# Altium footprint library PowerPcbLib.PcbLib: 18 footprints (part 1 of 2)
Each footprint in its own frame and in the unit in brackets; x right, y up, seen from the top. Pads: shape width x height; smd on the part's side, far side on the other; paste and mask are expansions set on the pad; w line width, h text height; cw(c..) or ccw(c..) is an arc to the next point about the centre after c.
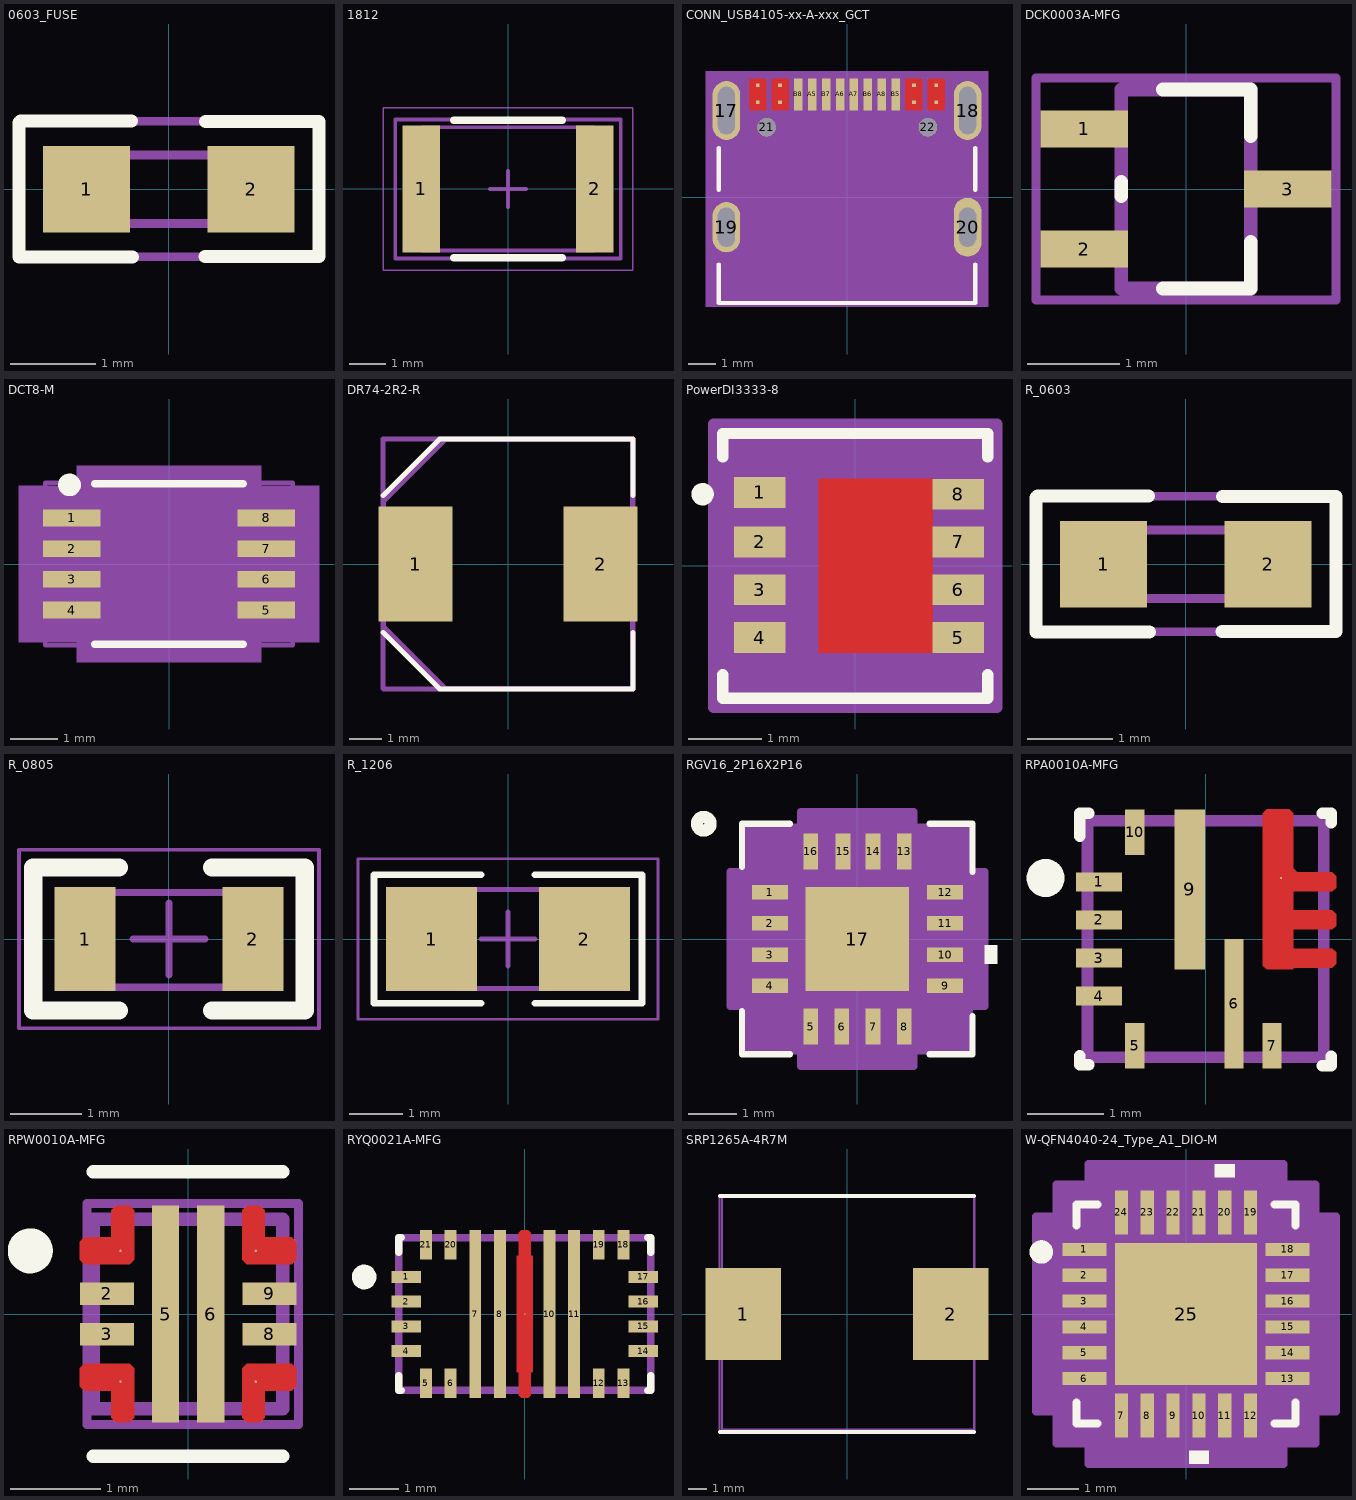
[diagram p0: the footprints below, top view; thin cyan lines are the x and y axes]

## 0603_FUSE [mil]
pads (2):
  rect 40x40 smd: 1(-37.89,0) 2(37.89,0)
Top Overlay:
  lines w6: -68.99,-31.03 -68.99,30.75 ; -68.9,-31.13 -16.76,-31.13 ; -68.36,31.38 -17.13,31.38 ; 16.59,-30.98 69.1,-30.98 69.1,31.22 16.97,31.22
Top Assembly:
  lines w3.94: -68.9,-31.13 69.1,-31.13 69.1,31.38 -68.9,31.38 -68.9,-31.13
  text ".Designator" at -59.06,-8.02 h39.37
Top Component Outline:
  lines w4: -31.49,-15.74 31.5,-15.74 31.5,15.75 -31.49,15.75 -31.49,-15.74
3D body "User Library-ptc06032-1(1).step": height 29.72, standoff 0, extent -31.49,-14.76 31.5,14.77

## 1812 [mm] "1812"
height 0.7
pads (2):
  rect 1.05x3.5 smd: 1(-2.4,0) 2(2.4,0)
Top Overlay:
  lines w0.2: -1.5,-1.9 1.5,-1.9 ; -1.5,1.9 1.5,1.9
Top Assembly:
  lines w0.1: -3.123,-1.923 3.123,-1.923 3.123,1.923 -3.123,1.923 -3.123,-1.923
  text ".Designator" at -1.9,-0.212 h1
Top Component Outline:
  lines w0.1: -2.365,-1.7 -2.365,1.705 2.365,1.705 2.365,-1.7 -2.365,-1.7
Mechanical 15:
  lines w0.05: -3.45,-2.25 3.45,-2.25 3.45,2.25 -3.45,2.25 -3.45,-2.25
  lines w0.1: -0.5,0 0.5,0 ; 0,-0.5 0,0.5
3D body "RESC4632X07M.step": height 0.7, standoff 0, extent -2.365,-1.705 2.365,1.705

## CONN_USB4105-xx-A-xxx_GCT [mil]
pads (22):
  oval 39x83 hole 67 slot 24 at 0 deg paste-99999: 17(-170.08,122.06) 18(170.08,122.06)
  oval 39x71 hole 55 slot 24 at 0 deg paste-99999: 19(-170.08,-42.51)
  oval 39x83 hole 55 slot 24 at 0 deg paste-99999: 20(170.08,-42.51)
  round 26 hole 26 unplated paste-99999 mask+0: 21(-113.39,98.43) 22(114.17,98.43)
  rect 5x5 smd paste-2.5 mask-2.5: A1(-125.98,157.48) A4(-94.49,157.48) A9(94.49,133.86) A12(125.98,133.86) B1(125.98,157.48) B4(94.49,157.48) B9(-94.49,133.86) B12(-125.98,133.86)
  rect 12x45 smd paste-22.5: A5(-49.21,144.7) A6(-9.84,144.7) A7(9.84,144.7) A8(49.21,144.7) B5(68.9,144.7) B6(29.53,144.7) B7(-29.53,144.7) B8(-68.9,144.7)
Top Layer:
  region: 137.98,122.2 137.98,167.2 113.98,167.2 113.98,122.2
  region: 106.49,122.2 106.49,167.2 82.49,167.2 82.49,122.2
  region: -82.49,122.2 -82.49,167.2 -106.49,167.2 -106.49,122.2
  region: -113.98,122.2 -113.98,167.2 -137.98,167.2 -137.98,122.2
Top Overlay:
  lines w6: -181,-95.22 -181,-149.5 181,-149.5 181,-95.22 ; -181,10.21 -181,69.34 ; 181,10.21 181,69.34
Top Paste:
  region: 137.98,122.2 137.98,167.2 113.98,167.2 113.98,122.2
  region: 106.49,122.2 106.49,167.2 82.49,167.2 82.49,122.2
  region: -82.49,122.2 -82.49,167.2 -106.49,167.2 -106.49,122.2
  region: -113.98,122.2 -113.98,167.2 -137.98,167.2 -137.98,122.2
Top Solder:
  region: 106.49,122.2 106.49,167.2 82.49,167.2 82.49,122.2
  region: -82.49,122.2 -82.49,167.2 -106.49,167.2 -106.49,122.2
  region: -113.98,122.2 -113.98,167.2 -137.98,167.2 -137.98,122.2
  region: 137.98,122.2 137.98,167.2 113.98,167.2 113.98,122.2
Top Assembly:
  lines w3.94: -189.88,-150.51 189.88,-150.51 189.88,174.13 -189.88,174.13 -189.88,-150.51
  text ".Designator" at -98.43,3.94 h50
Top Component Outline:
  lines w1: -176,-144.5 -176,144.5 176,144.5 176,-144.5 -176,-144.5
  lines w3.94: -174.63,-151.01 174.13,-151.01 174.13,150.51 -174.63,150.51 -174.63,-151.01
Mechanical 15:
  region: 199.58,177.2 -199.58,177.2 -199.58,-154.5 199.58,-154.5
3D body "USB4105-GF-A.stp": height 128.35, standoff -37.4, extent -176.97,-151.57 175,151.57

## DCK0003A-MFG [mm]
pads (3):
  rect 0.95x0.4 smd paste+0: 1(-1.1,0.65) 2(-1.1,-0.65) 3(1.1,0)
Top Overlay:
  lines w0.15: -0.7,-0.075 -0.7,0.075 ; -0.25,-1.075 0.7,-1.075 0.7,-0.575 ; -0.25,1.075 0.7,1.075 0.7,0.575
Top Assembly:
  lines w0.1: -1.623,-1.2 1.623,-1.2 1.623,1.2 -1.623,1.2 -1.623,-1.2
  text ".Designator" at -1.5,-0.414 h1.52
Top Component Outline:
  lines w0.15: -0.7,-1.075 0.7,-1.075 0.7,1.075 -0.7,1.075 -0.7,-1.075

## DCT8-M [mm]
pads (8):
  rect 1.223x0.355 smd paste+0: 1(-2.059,0.975) 2(-2.059,0.325) 3(-2.059,-0.325) 4(-2.059,-0.975) 5(2.059,-0.975) 6(2.059,-0.325) 7(2.059,0.325) 8(2.059,0.975)
Top Overlay:
  circle w0.254: c-2.108,1.676 r0.114
  lines w0.152: -1.575,-1.702 1.575,-1.702 ; -1.575,1.702 1.575,1.702
Top Assembly:
  lines w0.1: -2.623,-1.723 2.623,-1.723 2.623,1.723 -2.623,1.723 -2.623,-1.723
  text ".Designator" at -2,-0.3 h1.27
  text "*" at -0.4,-0.6 h1.27
Top Component Outline:
  lines w0.025: -0.305,1.575 ccw(c0,1.575) 0.305,1.575 ; -2.121,-1.127 -2.121,-0.823 -1.448,-0.823 -1.448,-1.127 -2.121,-1.127 ; -2.121,-0.477 -2.121,-0.173 -1.448,-0.173 -1.448,-0.477 -2.121,-0.477 ; -2.121,0.173 -2.121,0.477 -1.448,0.477 -1.448,0.173 -2.121,0.173 ; -2.121,0.823 -2.121,1.127 -1.448,1.127 -1.448,0.823 -2.121,0.823 ; -1.448,-1.575 -1.448,1.575 1.448,1.575 1.448,-1.575 -1.448,-1.575 ; 1.448,-1.127 2.121,-1.127 2.121,-0.823 1.448,-0.823 1.448,-1.127 ; 1.448,-0.477 2.121,-0.477 2.121,-0.173 1.448,-0.173 1.448,-0.477 ; 1.448,0.173 2.121,0.173 2.121,0.477 1.448,0.477 1.448,0.173 ; 1.448,0.823 2.121,0.823 2.121,1.127 1.448,1.127 1.448,0.823
Mechanical 15:
  region: -1.956,-1.66 -3.179,-1.66 -3.179,1.66 -1.956,1.66 -1.956,2.083 1.956,2.083 1.956,1.66 3.179,1.66 3.179,-1.66 1.956,-1.66 1.956,-2.083 -1.956,-2.083
3D body "DCT8.step": height 1.3, standoff 0, extent -2.121,-1.575 2.121,1.575

## DR74-2R2-R [mil]
pads (2):
  rect 89x138 smd: 1(-111,0) 2(111,0)
Top Overlay:
  lines w6: -150,-82 -82,-150 150,-150 150,-82 ; -150,82 -82,150 150,150 150,82
Top Assembly:
  lines w5.91: -149.61,-78.74 -78.74,-149.61 149.61,-149.61 149.61,149.61 -70.87,149.61 -78.74,149.61 -149.61,78.74 -149.61,-78.74
  text ".Designator" at -125.98,-12.36 h60
Top Component Outline:
  lines w6: -150,-75 -75,-150 ; -150,75 -75,150 ; -150,-149.21 -149.21,-150 150,-150 150,150 -150,150 -150,-149.21
3D body "step_temp.STEP": height 171.26, standoff 0, extent -149.61,-149.61 149.61,149.61

## PowerDI3333-8 [mm]
pads (8):
  rect 0.7x0.42 smd paste+0: 1(-1.3,1) 2(-1.3,0.325) 3(-1.3,-0.325) 4(-1.3,-0.975) 5(1.402,-0.975) 6(1.402,-0.325) 7(1.402,0.325) 8(1.402,0.975)
Top Layer:
  region: -0.495,-1.185 -0.495,1.185 1.054,1.185 1.054,-1.185
Top Overlay:
  circle w0.152: c-2.077,0.975 r0.076
  lines w0.152: -1.802,-1.481 -1.802,-1.802 1.802,-1.802 1.802,-1.481 ; -1.802,1.481 -1.802,1.802 1.802,1.802 1.802,1.481
Top Paste:
  region: -0.5,-1.185 -0.5,1.185 1.049,1.185 1.049,-1.185
Top Solder:
  region: -0.599,-1.185 -0.599,1.185 0.95,1.185 0.95,-1.185
Top Assembly:
  lines w0.1: -1.823,-1.823 1.823,-1.823 1.823,1.823 -1.823,1.823 -1.823,-1.823
  text ".Designator" at -1.5,-0.3 h1.27
Top Component Outline:
  lines w0.025: -0.305,1.675 ccw(c0,1.675) 0.305,1.675 ; -1.675,-1.675 1.675,-1.675 1.675,1.675 -1.675,1.675 -1.675,-1.675
Mechanical 15:
  region: -1.929,-1.439 -1.929,1.439 -1.929,1.929 1.929,1.929 1.929,1.439 1.929,-1.439 1.929,-1.929 -1.929,-1.929
  lines w0.152: -1.929,-1.929 -1.929,-1.439 -1.929,1.439 -1.929,1.929 1.929,1.929 1.929,1.439 1.929,-1.439 1.929,-1.929 -1.929,-1.929
3D body "DMP2008UFG-7.stp": height 0.85, standoff 0, extent -1.65,-1.649 1.65,1.651

## R_0603 [mil]
pads (2):
  rect 40x40 smd: 1(-37.89,0) 2(37.89,0)
Top Overlay:
  lines w6: -68.99,-31.03 -68.99,30.75 ; -68.9,-31.13 -16.76,-31.13 ; -68.36,31.38 -17.13,31.38 ; 16.59,-30.98 69.1,-30.98 69.1,31.22 16.97,31.22
Top Assembly:
  lines w3.94: -68.9,-31.13 -68.9,31.38 69.1,31.38 69.1,-31.13 -68.9,-31.13
  text ".Designator" at -47.24,-11.81 h39.37
Top Component Outline:
  lines w4: -31.49,-15.74 -31.49,15.75 31.5,15.75 31.5,-15.74 -31.49,-15.74
3D body "User Library-RES_1609-0603.step": height 22.05, standoff 0, extent -33.46,-16.73 33.47,14.77

## R_0805 [mm] "Chip Resistor, 2-Leads, Body 2,00x1,25mm, IPC Low Density"
height 0.8
pads (2):
  rect 0.85x1.45 smd: 1(-1.175,0) 2(1.175,0)
Top Overlay:
  lines w0.254: -0.7,-1 -1.9,-1 -1.9,1 -0.7,1 ; 0.6,-1 0.8,-1 1.9,-1 1.9,1 0.6,1
Top Assembly:
  lines w0.1: -1.05,-0.675 1.05,-0.675 1.05,0.65 -1.05,0.65 -1.05,-0.675
  text ".Designator" at -0.8,-0.414 h1.52
Mechanical 15:
  lines w0.05: -2.1,-1.25 -2.1,1.25 2.1,1.25 2.1,-1.25 -2.1,-1.25
  lines w0.1: -0.5,0 0.5,0 ; 0,-0.5 0,0.5
3D body: height 0.8, standoff 0, extent -0.65,-0.675 0.65,0.675
3D body: height 0.8, standoff 0, extent -1.05,-0.675 -0.65,0.675
3D body: height 0.8, standoff 0, extent 0.65,-0.675 1.05,0.675

## R_1206 [mm] "Chip Resistor, 2-Leads, Body 3,20x1,60mm, IPC Low Density"
height 0.65
pads (2):
  rect 1.7x1.95 smd: 1(-1.425,0) 2(1.425,0)
Top Overlay:
  lines w0.127: -0.5,-1.2 -2.5,-1.2 -2.5,1.2 -0.5,1.2 ; 0.5,-1.2 2.5,-1.2 2.5,1.2 0.5,1.2
Top Assembly:
  lines w0.1: -1.725,-0.925 -1.725,0.925 1.725,0.925 1.725,-0.925 -1.725,-0.925
  text ".Designator" at -1.3,-0.314 h1.52
Mechanical 15:
  lines w0.05: -2.8,-1.5 -2.8,1.5 2.8,1.5 2.8,-1.5 -2.8,-1.5
  lines w0.1: -0.5,0 0.5,0 ; 0,-0.5 0,0.5
3D body: height 0.65, standoff 0, extent -1.125,-0.925 1.125,0.925
3D body: height 0.65, standoff 0, extent -1.725,-0.925 -1.125,0.925
3D body: height 0.65, standoff 0, extent 1.125,-0.925 1.725,0.925

## RGV16_2P16X2P16 [mm]
pads (17):
  rect 0.75x0.305 smd paste+0: 1(-1.825,0.975) 2(-1.825,0.325) 3(-1.825,-0.325) 4(-1.825,-0.975) 9(1.825,-0.975) 10(1.825,-0.325) 11(1.825,0.325) 12(1.825,0.975)
  rect 0.305x0.75 smd paste+0: 5(-0.975,-1.825) 6(-0.325,-1.825) 7(0.325,-1.825) 8(0.975,-1.825) 13(0.975,1.825) 14(0.325,1.825) 15(-0.3,1.825) 16(-0.975,1.825)
  rect 2.16x2.16 smd paste-1.08: 17(0,0)
Top Overlay:
  circle w0.254: c-3.2,2.4 r0.141
  region: 2.654,-0.135 2.908,-0.135 2.908,-0.516 2.654,-0.516
  lines w0.127: -2.4,-1.5 -2.4,-2.4 -1.4,-2.4 ; -1.4,2.4 -2.4,2.4 ; 1.5,-2.4 2.4,-2.4 2.4,-1.6 ; 1.5,2.4 2.4,2.4 2.4,1.6 2.4,1.4 ; -2.4,2.4 -2.4,1.5 -2.4,2.4
Top Paste:
  region: 1.005,-0.494 0.635,-0.494 0.494,-0.635 0.494,-1.005 1.005,-1.005
  region: 1.005,0.294 0.635,0.294 0.494,0.152 0.494,-0.152 0.635,-0.294 1.005,-0.294
  region: 1.005,1.005 0.494,1.005 0.494,0.635 0.635,0.494 1.005,0.494
  region: 0.152,-0.494 -0.152,-0.494 -0.294,-0.635 -0.294,-1.005 0.294,-1.005 0.294,-0.635
  region: 0.152,0.294 -0.152,0.294 -0.294,0.152 -0.294,-0.152 -0.152,-0.294 0.152,-0.294 0.294,-0.152 0.294,0.152
  region: 0.294,1.005 -0.294,1.005 -0.294,0.635 -0.152,0.494 0.152,0.494 0.294,0.635
  region: -0.635,-0.494 -1.005,-0.494 -1.005,-1.005 -0.494,-1.005 -0.494,-0.635
  region: -0.635,0.294 -1.005,0.294 -1.005,-0.294 -0.635,-0.294 -0.494,-0.152 -0.494,0.152
  region: -0.494,1.005 -1.005,1.005 -1.005,0.494 -0.635,0.494 -0.494,0.635
Top Solder:
  region: 0.594,-1.144 0.594,1.144 1.144,1.144 1.144,-1.144
  region: 0.194,-1.144 0.194,1.144 -0.194,1.144 -0.194,-1.144
  region: -0.8,-1.1 -0.8,1.187 -0.25,1.187 -0.25,-1.1
  region: -1.144,-1.144 -1.144,-0.594 1.144,-0.594 1.144,-1.144
  region: -1.144,-0.194 -1.144,0.194 1.144,0.194 1.144,-0.194
  region: -1.144,0.594 -1.144,1.144 1.144,1.144 1.144,0.594
Top Assembly:
  lines w0.1: -2.123,-2.223 2.223,-2.223 2.223,2.223 -2.123,2.223 -2.123,-2.223
  text ".Designator" at -1.1,-0.3 h1.27
Top Component Outline:
  lines w0.025: -2.075,0.805 -0.805,2.075 ; -2.075,-2.075 -2.075,2.075 2.075,2.075 2.075,-2.075 -2.075,-2.075
  text "*" at -1.463,0.665 h1.27
Mechanical 15:
  region: -1.179,-2.329 -2.329,-2.329 -2.329,-1.404 -2.654,-1.404 -2.654,1.404 -2.329,1.404 -2.329,2.329 -1.179,2.329 -1.179,2.654 1.179,2.654 1.179,2.329 2.329,2.329 2.329,1.404 2.654,1.404 2.654,-1.404 2.329,-1.404 2.329,-2.329 1.179,-2.329 1.179,-2.654 -1.179,-2.654
  lines w0.152: -2.654,-1.404 -2.654,1.404 -2.329,1.404 -2.329,2.329 -1.179,2.329 -1.179,2.654 1.179,2.654 1.179,2.329 2.329,2.329 2.329,1.404 2.654,1.404 2.654,-1.404 2.329,-1.404 2.329,-2.329 1.179,-2.329 1.179,-2.654 -1.179,-2.654 -1.179,-2.329 -2.329,-2.329 -2.329,-1.404 -2.654,-1.404
3D body "RGV16_2P16X2P16.step": height 1, standoff 0, extent -2.126,-2.126 2.126,2.126

## RPA0010A-MFG [mm]
pads (10):
  rect 0.6x0.25 smd paste+0: 1(-1.4,0.75) 2(-1.4,0.25) 3(-1.4,-0.25) 4(-1.4,-0.75)
  rect 0.25x0.6 smd paste+0: 5(-0.93,-1.4) 7(0.87,-1.4) 10(-0.93,1.4)
  rect 0.25x1.7 smd paste-0.837: 6(0.37,-0.85)
  round 0.025 smd paste+0 mask+0: 8(0.99,0.8)
  rect 0.4x2.1 smd paste-1.037: 9(-0.21,0.65)
Top Layer:
  region: 1.1,1.7 0.8,1.7 0.75,1.65 0.75,-0.35 0.8,-0.4 1.15,-0.4 1.15,-0.375 1.66,-0.375 1.71,-0.325 1.71,-0.175 1.66,-0.125 1.15,-0.125 1.15,0.125 1.66,0.125 1.71,0.175 1.71,0.325 1.66,0.375 1.15,0.375 1.15,0.625 1.66,0.625 1.71,0.675 1.71,0.825 1.66,0.875 1.2,0.875 1.15,0.925 1.15,1.65
Top Overlay:
  circle w0.25: c-2.1,0.8 r0.125
  lines w0.15: -1.65,-1.53 -1.65,-1.65 -1.53,-1.65 ; -1.65,1.35 -1.65,1.65 -1.53,1.65 ; 1.53,-1.66 1.65,-1.66 1.65,-1.54 ; 1.53,1.65 1.65,1.65 ; 1.65,1.525 1.65,1.645
Top Paste:
  region: 0.75,1.65 0.8,1.7 1.1,1.7 1.15,1.65 1.15,0.925 1.2,0.875 1.66,0.875 1.71,0.825 1.71,0.675 1.66,0.625 1.15,0.625 1.15,0.375 1.66,0.375 1.71,0.325 1.71,0.175 1.66,0.125 1.15,0.125 1.15,-0.125 1.66,-0.125 1.71,-0.175 1.71,-0.325 1.66,-0.375 1.15,-0.375 1.15,-0.4 0.8,-0.4 0.75,-0.35
  region: 0.295,-0.005 0.445,-0.005 0.495,-0.055 0.495,-0.705 0.445,-0.755 0.295,-0.755 0.245,-0.705 0.245,-0.055
  region: 0.295,-1.705 0.245,-1.655 0.245,-1.005 0.295,-0.955 0.445,-0.955 0.495,-1.005 0.495,-1.655 0.445,-1.705
  region: -0.36,-0.395 -0.41,-0.345 -0.41,0.505 -0.36,0.555 -0.06,0.555 -0.01,0.505 -0.01,-0.345 -0.06,-0.395
  region: -0.41,1.655 -0.36,1.705 -0.06,1.705 -0.01,1.655 -0.01,0.805 -0.06,0.755 -0.36,0.755 -0.41,0.805
Top Solder:
  region: 0.75,1.65 0.8,1.7 1.1,1.7 1.15,1.65 1.15,0.925 1.2,0.875 1.66,0.875 1.71,0.825 1.71,0.675 1.66,0.625 1.15,0.625 1.15,0.375 1.66,0.375 1.71,0.325 1.71,0.175 1.66,0.125 1.15,0.125 1.15,-0.125 1.66,-0.125 1.71,-0.175 1.71,-0.325 1.66,-0.375 1.15,-0.375 1.15,-0.4 0.8,-0.4 0.75,-0.35
Top Assembly:
  lines w0.1: -1.523,-1.523 1.523,-1.523 1.523,1.523 -1.523,1.523 -1.523,-1.523
  text ".Designator" at -1.1,-0.3 h1.27
Top Component Outline:
  lines w0.15: -1.55,-1.55 1.55,-1.55 1.55,1.55 -1.55,1.55 -1.55,-1.55
3D body "TPS56837RPAR.stp": height 1, standoff 0, extent -1.449,-1.527 1.551,1.473

## RPW0010A-MFG [mm]
pads (10):
  round 0.025 smd paste-0.122 mask+0: 1(-0.75,0.7) 10(0.75,0.7)
  rect 0.6x0.25 smd paste+0: 2(-0.9,0.225) 3(-0.9,-0.225) 8(0.9,-0.225) 9(0.9,0.225)
  round 0.025 smd paste-0.115 mask+0: 4(-0.75,-0.75) 7(0.75,-0.75)
  rect 0.3x2.4 smd paste-1.187: 5(-0.25,0) 6(0.25,0)
Top Layer:
  region: -1.15,0.85 -0.85,0.85 -0.85,1.15 -0.8,1.2 -0.65,1.2 -0.6,1.15 -0.6,0.6 -0.65,0.55 -1.15,0.55 -1.2,0.6 -1.2,0.8
  region: -1.15,-0.85 -0.85,-0.85 -0.85,-1.15 -0.8,-1.2 -0.65,-1.2 -0.6,-1.15 -0.6,-0.6 -0.65,-0.55 -1.15,-0.55 -1.2,-0.6 -1.2,-0.8
  region: 1.15,-0.85 0.85,-0.85 0.85,-1.15 0.8,-1.2 0.65,-1.2 0.6,-1.15 0.6,-0.6 0.65,-0.55 1.15,-0.55 1.2,-0.6 1.2,-0.8
  region: 1.15,0.85 0.85,0.85 0.85,1.15 0.8,1.2 0.65,1.2 0.6,1.15 0.6,0.6 0.65,0.55 1.15,0.55 1.2,0.6 1.2,0.8
Top Overlay:
  circle w0.25: c-1.75,0.7 r0.125
  lines w0.15: -1.05,-1.575 1.05,-1.575 ; -1.05,1.575 1.05,1.575
Top Paste:
  region: 0.39,-0.15 0.39,-1.11 0.34,-1.16 0.16,-1.16 0.11,-1.11 0.11,-0.15 0.16,-0.1 0.34,-0.1
  region: -0.16,-1.16 -0.34,-1.16 -0.39,-1.11 -0.39,-0.15 -0.34,-0.1 -0.16,-0.1 -0.11,-0.15 -0.11,-1.11
  region: 0.39,1.11 0.39,0.15 0.34,0.1 0.16,0.1 0.11,0.15 0.11,1.11 0.16,1.16 0.34,1.16
  region: -0.16,1.16 -0.11,1.11 -0.11,0.15 -0.16,0.1 -0.34,0.1 -0.39,0.15 -0.39,1.11 -0.34,1.16
  region: -1.15,-0.825 -0.825,-0.825 -0.825,-1.15 -0.775,-1.2 -0.65,-1.2 -0.6,-1.15 -0.6,-0.6 -0.65,-0.55 -1.15,-0.55 -1.2,-0.6 -1.2,-0.775
  region: -1.15,0.825 -0.825,0.825 -0.825,1.15 -0.775,1.2 -0.65,1.2 -0.6,1.15 -0.6,0.6 -0.65,0.55 -1.15,0.55 -1.2,0.6 -1.2,0.775
  region: 1.15,0.825 0.825,0.825 0.825,1.15 0.775,1.2 0.65,1.2 0.6,1.15 0.6,0.6 0.65,0.55 1.15,0.55 1.2,0.6 1.2,0.775
  region: 1.15,-0.825 0.825,-0.825 0.825,-1.15 0.775,-1.2 0.65,-1.2 0.6,-1.15 0.6,-0.6 0.65,-0.55 1.15,-0.55 1.2,-0.6 1.2,-0.775
Top Solder:
  region: 0.85,1.15 0.85,0.85 1.15,0.85 1.2,0.8 1.2,0.6 1.15,0.55 0.65,0.55 0.6,0.6 0.6,1.15 0.65,1.2 0.8,1.2
  region: 1.15,-0.85 0.85,-0.85 0.85,-1.15 0.8,-1.2 0.65,-1.2 0.6,-1.15 0.6,-0.6 0.65,-0.55 1.15,-0.55 1.2,-0.6 1.2,-0.8
  region: -0.85,-1.15 -0.85,-0.85 -1.15,-0.85 -1.2,-0.8 -1.2,-0.6 -1.15,-0.55 -0.65,-0.55 -0.6,-0.6 -0.6,-1.15 -0.65,-1.2 -0.8,-1.2
  region: -1.15,0.85 -0.85,0.85 -0.85,1.15 -0.8,1.2 -0.65,1.2 -0.6,1.15 -0.6,0.6 -0.65,0.55 -1.15,0.55 -1.2,0.6 -1.2,0.8
Top Assembly:
  lines w0.1: -1.123,-1.223 1.223,-1.223 1.223,1.223 -1.123,1.223 -1.123,-1.223
  text ".Designator" at -0.9,-0.314 h1.52
Top Component Outline:
  lines w0.15: -1.05,-1.05 -1.05,1.05 1.05,1.05 1.05,-1.05 -1.05,-1.05
3D body "RPW0010A.stp": height 1, standoff 0, extent -0.991,-1.009 1.009,0.991

## RYQ0021A-MFG [mm]
pads (21):
  rect 0.6x0.24 smd paste+0: 1(-2.4,0.75) 2(-2.4,0.25) 3(-2.4,-0.25) 4(-2.4,-0.75) 14(2.4,-0.75) 15(2.4,-0.25) 16(2.4,0.25) 17(2.4,0.75)
  rect 0.24x0.6 smd paste+0: 5(-2,-1.4) 6(-1.5,-1.4) 12(1.5,-1.4) 13(2,-1.4) 18(2,1.4) 19(1.5,1.4) 20(-1.5,1.4) 21(-2,1.4)
  rect 0.24x3.4 smd paste-1.687: 7(-1,0) 8(-0.5,0) 10(0.5,0) 11(1,0)
  round 0.025 smd paste-0.136 mask+0: 9(0,0)
Top Layer:
  region: -0.12,-1.175 -0.165,-1.175 -0.165,1.175 -0.12,1.175 -0.12,1.65 -0.07,1.7 0.07,1.7 0.12,1.65 0.12,1.175 0.165,1.175 0.165,-1.175 0.12,-1.175 0.12,-1.65 0.07,-1.7 -0.07,-1.7 -0.12,-1.65
Top Overlay:
  circle w0.25: c-3.25,0.75 r0.125
  lines w0.15: -2.55,-1.245 -2.55,-1.55 -2.495,-1.55 ; -2.55,1.245 -2.55,1.55 -2.495,1.55 ; 2.495,-1.55 2.55,-1.55 2.55,-1.245 ; 2.495,1.55 2.55,1.55 2.55,1.245
Top Paste:
  region: 0.88,-0.45 0.88,0.45 0.93,0.5 1.07,0.5 1.12,0.45 1.12,-0.45 1.07,-0.5 0.93,-0.5
  region: 0.43,0.5 0.57,0.5 0.62,0.45 0.62,-0.45 0.57,-0.5 0.43,-0.5 0.38,-0.45 0.38,0.45
  region: 0.115,0.5 0.165,0.45 0.165,-0.45 0.115,-0.5 -0.115,-0.5 -0.165,-0.45 -0.165,0.45 -0.115,0.5
  region: -0.57,0.5 -0.43,0.5 -0.38,0.45 -0.38,-0.45 -0.43,-0.5 -0.57,-0.5 -0.62,-0.45 -0.62,0.45
  region: -1.12,0.45 -1.07,0.5 -0.93,0.5 -0.88,0.45 -0.88,-0.45 -0.93,-0.5 -1.07,-0.5 -1.12,-0.45
  region: 1.12,-1.65 1.07,-1.7 0.93,-1.7 0.88,-1.65 0.88,-0.75 0.93,-0.7 1.07,-0.7 1.12,-0.75
  region: 0.57,-1.7 0.43,-1.7 0.38,-1.65 0.38,-0.75 0.43,-0.7 0.57,-0.7 0.62,-0.75 0.62,-1.65
  region: -0.07,-0.7 0.07,-0.7 0.12,-0.75 0.12,-1.65 0.07,-1.7 -0.07,-1.7 -0.12,-1.65 -0.12,-0.75
  region: -0.62,-1.65 -0.62,-0.75 -0.57,-0.7 -0.43,-0.7 -0.38,-0.75 -0.38,-1.65 -0.43,-1.7 -0.57,-1.7
  region: -0.93,-0.7 -0.88,-0.75 -0.88,-1.65 -0.93,-1.7 -1.07,-1.7 -1.12,-1.65 -1.12,-0.75 -1.07,-0.7
  region: 0.88,1.65 0.93,1.7 1.07,1.7 1.12,1.65 1.12,0.75 1.07,0.7 0.93,0.7 0.88,0.75
  region: 0.43,1.7 0.57,1.7 0.62,1.65 0.62,0.75 0.57,0.7 0.43,0.7 0.38,0.75 0.38,1.65
  region: -0.12,1.65 -0.07,1.7 0.07,1.7 0.12,1.65 0.12,0.75 0.07,0.7 -0.07,0.7 -0.12,0.75
  region: -0.57,0.7 -0.62,0.75 -0.62,1.65 -0.57,1.7 -0.43,1.7 -0.38,1.65 -0.38,0.75 -0.43,0.7
  region: -0.88,1.65 -0.88,0.75 -0.93,0.7 -1.07,0.7 -1.12,0.75 -1.12,1.65 -1.07,1.7 -0.93,1.7
Top Solder:
  region: -0.12,-1.175 -0.165,-1.175 -0.165,1.175 -0.12,1.175 -0.12,1.65 -0.07,1.7 0.07,1.7 0.12,1.65 0.12,1.175 0.165,1.175 0.165,-1.175 0.12,-1.175 0.12,-1.65 0.07,-1.7 -0.07,-1.7 -0.12,-1.65
Top Assembly:
  lines w0.1: -2.523,-1.523 2.523,-1.523 2.523,1.523 -2.523,1.523 -2.523,-1.523
  text ".Designator" at -2.1,-0.3 h1.27
Top Component Outline:
  lines w0.15: -2.55,-1.55 -2.55,1.55 2.55,1.55 2.55,-1.55 -2.55,-1.55
3D body "TPS552892RYQR.stp": height 1, standoff 0, extent -2.5,-1.525 2.5,1.475

## SRP1265A-4R7M [mm]
pads (2):
  rect 4x4.9 smd: 1(-5.5,0) 2(5.5,0)
Top Overlay:
  lines w0.2: -6.75,-6.25 6.75,-6.25 ; -6.75,6.25 6.75,6.25
Top Assembly:
  lines w0.1: -6.623,-6.123 6.723,-6.123 6.723,6.223 -6.623,6.223 -6.623,-6.123
  text ".Designator" at -3.4,-0.214 h1.52
Mechanical 15:
  lines w0.1: -6.75,-6.25 -6.75,6.25 6.75,6.25 6.75,-6.25 -6.75,-6.25
3D body "SRP1265A-4R7M.stp": height 6.4, standoff 0, extent -6.75,-6.1 6.75,6.4

## W-QFN4040-24_Type_A1_DIO-M [mm]
pads (25):
  rect 0.857x0.255 smd paste+0: 1(-1.965,1.25) 2(-1.965,0.75) 3(-1.965,0.25) 4(-1.965,-0.25) 5(-1.965,-0.75) 6(-1.965,-1.25) 13(1.965,-1.25) 14(1.965,-0.75) 15(1.965,-0.25) 16(1.965,0.25) 17(1.965,0.75) 18(1.965,1.25)
  rect 0.255x0.857 smd paste+0: 7(-1.25,-1.965) 8(-0.75,-1.965) 9(-0.25,-1.965) 10(0.25,-1.965) 11(0.75,-1.965) 12(1.25,-1.965) 19(1.25,1.965) 20(0.75,1.965) 21(0.25,1.965) 22(-0.25,1.965) 23(-0.75,1.965) 24(-1.25,1.965)
  rect 2.743x2.743 smd paste+0: 25(0,0)
Top Overlay:
  circle w0.254: c-2.8,1.2 r0.1
  region: 0.941,2.648 0.56,2.648 0.56,2.902 0.941,2.902
  region: 0.44,-2.648 0.059,-2.648 0.059,-2.902 0.44,-2.902
  lines w0.152: -2.121,-1.71 -2.121,-2.121 -1.71,-2.121 ; -2.121,1.71 -2.121,2.121 -1.71,2.121 ; 1.71,-2.121 2.121,-2.121 2.121,-1.71 ; 1.71,2.121 2.121,2.121 2.121,1.71
Top Assembly:
  lines w0.1: -2.023,-2.023 2.023,-2.023 2.023,2.023 -2.023,2.023 -2.023,-2.023
  text ".Designator" at -0.7,-0.4 h1.27
Top Component Outline:
  lines w0.025: -1.994,0.724 -0.724,1.994 ; -1.994,-1.994 -1.994,1.994 1.994,1.994 1.994,-1.994 -1.994,-1.994 ; -1.994,-1.402 -1.994,-1.098 -1.994,-1.402 ; -1.994,-0.902 -1.994,-0.598 -1.994,-0.902 ; -1.994,-0.402 -1.994,-0.098 -1.994,-0.402 ; -1.994,0.098 -1.994,0.402 -1.994,0.098 ; -1.994,0.598 -1.994,0.902 -1.994,0.598 ; -1.994,1.098 -1.994,1.402 -1.994,1.098 ; -1.402,-1.994 -1.098,-1.994 -1.402,-1.994 ; -1.402,1.994 -1.098,1.994 -1.402,1.994 ; -0.902,-1.994 -0.598,-1.994 -0.902,-1.994 ; -0.902,1.994 -0.598,1.994 -0.902,1.994 ; -0.402,-1.994 -0.098,-1.994 -0.402,-1.994 ; -0.402,1.994 -0.098,1.994 -0.402,1.994 ; 0.098,-1.994 0.402,-1.994 0.098,-1.994 ; 0.098,1.994 0.402,1.994 0.098,1.994 ; 0.598,-1.994 0.902,-1.994 0.598,-1.994 ; 0.598,1.994 0.902,1.994 0.598,1.994 ; 1.098,-1.994 1.402,-1.994 1.098,-1.994 ; 1.098,1.994 1.402,1.994 1.098,1.994 ; 1.994,-1.402 1.994,-1.098 1.994,-1.402 ; 1.994,-0.902 1.994,-0.598 1.994,-0.902 ; 1.994,-0.402 1.994,-0.098 1.994,-0.402 ; 1.994,0.098 1.994,0.402 1.994,0.098 ; 1.994,0.598 1.994,0.902 1.994,0.598 ; 1.994,1.098 1.994,1.402 1.994,1.098
  text "*" at -1.067,0.615 h1.27
Mechanical 15:
  region: -1.885,-2.502 -2.502,-2.502 -2.502,-1.885 -2.902,-1.885 -2.902,1.885 -2.502,1.885 -2.502,2.502 -1.885,2.502 -1.885,2.902 1.885,2.902 1.885,2.502 2.502,2.502 2.502,1.885 2.902,1.885 2.902,-1.885 2.502,-1.885 2.502,-2.502 1.885,-2.502 1.885,-2.902 -1.885,-2.902
  lines w0.152: -2.902,-1.885 -2.902,1.885 -2.502,1.885 -2.502,2.502 -1.885,2.502 -1.885,2.902 1.885,2.902 1.885,2.502 2.502,2.502 2.502,1.885 2.902,1.885 2.902,-1.885 2.502,-1.885 2.502,-2.502 1.885,-2.502 1.885,-2.902 -1.885,-2.902 -1.885,-2.502 -2.502,-2.502 -2.502,-1.885 -2.902,-1.885
3D body "W-QFN4040-24_Type_A1_DIO.step": height 1.4, standoff 0, extent -1.994,-1.994 1.994,1.994